# EAGLE library part CON-DSUB-15-VGA (library m-pad-2.1)
NORCOMP's High Density 90° PC Mount D-Sub Connector 181 Series: SPECIFICATIONS: Contact Rating: 5 Amps Dielectric Strength: 1000V AC RMS Insulation Resistance: 1000 meg ohms Contact Material: Phosphor Bronze Contact Finish: Gold flash over Nickel Operating Temperature: -55°C to 150°C Shell Material: Steel, Tin Plated Insulations Material: Glass-Filled Polyester (UL94V-0) Gender: Receptacle (female) Please send any comments to: messi@users.sourceforge.net
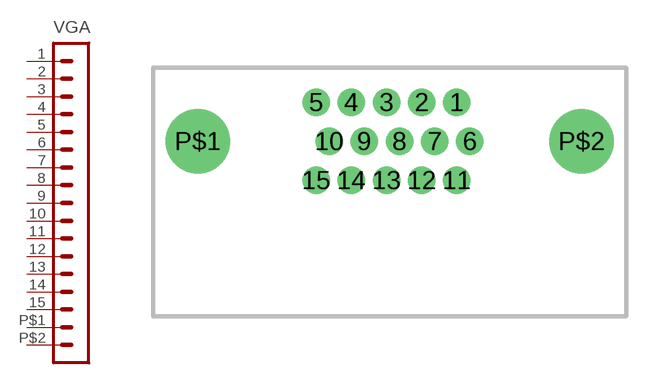
[diagram p100: symbol with the pads of 181-015-212-171; footprint 181-015-212-171]

Designator prefix J

## CON-DSUB-15-VGA  [181-015-212-171]
1  RED  pas
2  2  pas
3  BLUE  pas
4  4  pas
5  GND  pas
6  6  pas
7  7  pas
8  8  pas
9  9  pas
10  GND1  pas
11  11  pas
12  12  pas
13  13  pas
14  14  pas
15  15  pas
P$1  16  pas
P$2  17  pas

## Footprint 181-015-212-171 (pad centres in mm)
drill 1.194: 1 4.371,2.541; 2 2.08,2.541; 3 -0.211,2.541; 4 -2.502,2.541; 5 -4.793,2.541; 6 5.217,0; 7 2.926,0; 8 0.635,0; 9 -1.656,0; 10 -3.947,0; 11 4.371,-2.541; 12 2.08,-2.541; 13 -0.211,-2.541; 14 -2.502,-2.541; 15 -4.793,-2.541
drill 3.2: P$1 -12.502,0; P$2 12.502,0